# Altium schematic symbol library Ingenic.SchLib: 2 symbols
Pins are listed as number, name and electrical type; pins without a type are passive.

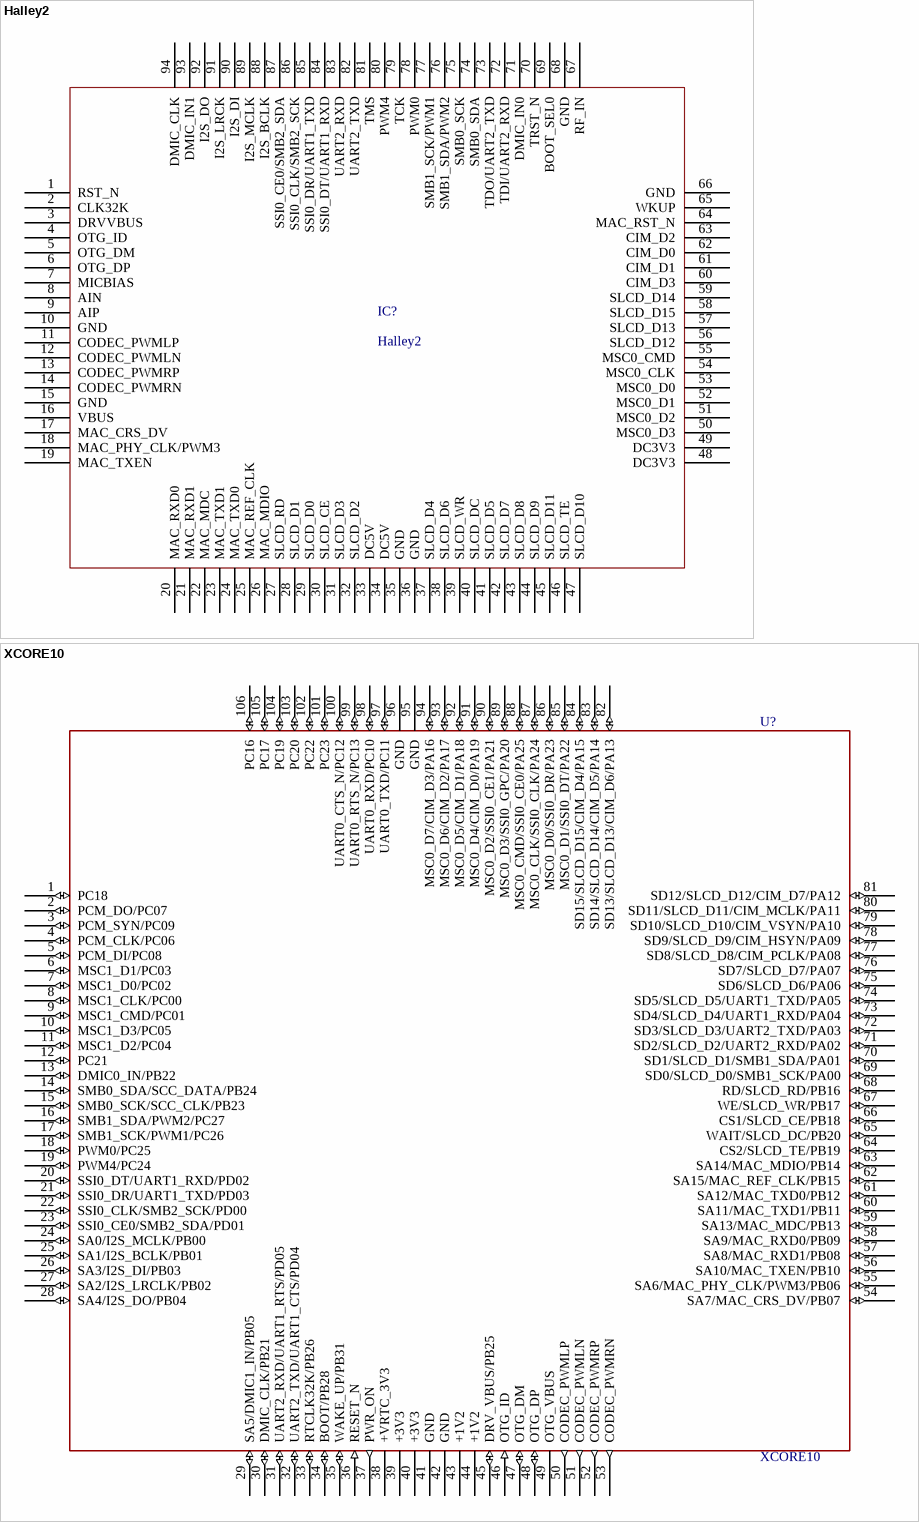
[diagram p0: symbols Halley2 to XCORE10]

## Halley2
designator IC?
footprint Halley2
pins: 1 RST_N, 2 CLK32K, 3 DRVVBUS, 4 OTG_ID, 5 OTG_DM, 6 OTG_DP, 7 MICBIAS, 8 AIN, 9 AIP, 10 GND, 11 CODEC_PWMLP, 12 CODEC_PWMLN, 13 CODEC_PWMRP, 14 CODEC_PWMRN, 15 GND, 16 VBUS, 17 MAC_CRS_DV, 18 MAC_PHY_CLK/PWM3, 19 MAC_TXEN, 20 MAC_RXD0, 21 MAC_RXD1, 22 MAC_MDC, 23 MAC_TXD1, 24 MAC_TXD0, 25 MAC_REF_CLK, 26 MAC_MDIO, 27 SLCD_RD, 28 SLCD_D1, 29 SLCD_D0, 30 SLCD_CE, 31 SLCD_D3, 32 SLCD_D2, 33 DC5V, 34 DC5V, 35 GND, 36 GND, 37 SLCD_D4, 38 SLCD_D6, 39 SLCD_WR, 40 SLCD_DC, 41 SLCD_D5, 42 SLCD_D7, 43 SLCD_D8, 44 SLCD_D9, 45 SLCD_D11, 46 SLCD_TE, 47 SLCD_D10, 48 DC3V3, 49 DC3V3, 50 MSC0_D3, 51 MSC0_D2, 52 MSC0_D1, 53 MSC0_D0, 54 MSC0_CLK, 55 MSC0_CMD, 56 SLCD_D12, 57 SLCD_D13, 58 SLCD_D15, 59 SLCD_D14, 60 CIM_D3, 61 CIM_D1, 62 CIM_D0, 63 CIM_D2, 64 MAC_RST_N, 65 WKUP, 66 GND, 67 RF_IN, 68 GND, 69 BOOT_SEL0, 70 TRST_N, 71 DMIC_IN0, 72 TDI/UART2_RXD, 73 TDO/UART2_TXD, 74 SMB0_SDA, 75 SMB0_SCK, 76 SMB1_SDA/PWM2, 77 SMB1_SCK/PWM1, 78 PWM0, 79 TCK, 80 PWM4, 81 TMS, 82 UART2_TXD, 83 UART2_RXD, 84 SSI0_DT/UART1_RXD, 85 SSI0_DR/UART1_TXD, 86 SSI0_CLK/SMB2_SCK, 87 SSI0_CE0/SMB2_SDA, 88 I2S_BCLK, 89 I2S_MCLK, 90 I2S_DI, 91 I2S_LRCK, 92 I2S_DO, 93 DMIC_IN1, 94 DMIC_CLK

## XCORE10
designator U?
footprint CORE-32*26-1.0
pins: 1 PC18 (io), 2 PCM_DO/PC07 (io), 3 PCM_SYN/PC09 (io), 4 PCM_CLK/PC06 (io), 5 PCM_DI/PC08 (io), 6 MSC1_D1/PC03 (io), 7 MSC1_D0/PC02 (io), 8 MSC1_CLK/PC00 (io), 9 MSC1_CMD/PC01 (io), 10 MSC1_D3/PC05 (io), 11 MSC1_D2/PC04 (io), 12 PC21 (io), 13 DMIC0_IN/PB22 (io), 14 SMB0_SDA/SCC_DATA/PB24 (io), 15 SMB0_SCK/SCC_CLK/PB23 (io), 16 SMB1_SDA/PWM2/PC27 (io), 17 SMB1_SCK/PWM1/PC26 (io), 18 PWM0/PC25 (io), 19 PWM4/PC24 (io), 20 SSI0_DT/UART1_RXD/PD02 (io), 21 SSI0_DR/UART1_TXD/PD03 (io), 22 SSI0_CLK/SMB2_SCK/PD00 (io), 23 SSI0_CE0/SMB2_SDA/PD01 (io), 24 SA0/I2S_MCLK/PB00 (io), 25 SA1/I2S_BCLK/PB01 (io), 26 SA3/I2S_DI/PB03 (io), 27 SA2/I2S_LRCLK/PB02 (io), 28 SA4/I2S_DO/PB04 (io), 29 SA5/DMIC1_IN/PB05 (io), 30 DMIC_CLK/PB21 (io), 31 UART2_RXD/UART1_RTS/PD05 (io), 32 UART2_TXD/UART1_CTS/PD04 (io), 33 RTCLK32K/PB26 (io), 34 BOOT/PB28 (io), 35 WAKE_UP/PB31 (io), 36 RESET_N (in), 37 PWR_ON (out), 38 +VRTC_3V3 (power), 39 +3V3 (power), 40 +3V3 (power), 41 GND (power), 42 GND (power), 43 +1V2 (power), 44 +1V2 (power), 45 DRV_VBUS/PB25 (io), 46 OTG_ID (in), 47 OTG_DM (io), 48 OTG_DP (io), 49 OTG_VBUS (power), 50 CODEC_PWMLP (out), 51 CODEC_PWMLN (out), 52 CODEC_PWMRP (out), 53 CODEC_PWMRN (out), 54 SA7/MAC_CRS_DV/PB07 (io), 55 SA6/MAC_PHY_CLK/PWM3/PB06 (io), 56 SA10/MAC_TXEN/PB10 (io), 57 SA8/MAC_RXD1/PB08 (io), 58 SA9/MAC_RXD0/PB09 (io), 59 SA13/MAC_MDC/PB13 (io), 60 SA11/MAC_TXD1/PB11 (io), 61 SA12/MAC_TXD0/PB12 (io), 62 SA15/MAC_REF_CLK/PB15 (io), 63 SA14/MAC_MDIO/PB14 (io), 64 CS2/SLCD_TE/PB19 (io), 65 WAIT/SLCD_DC/PB20 (io), 66 CS1/SLCD_CE/PB18 (io), 67 WE/SLCD_WR/PB17 (io), 68 RD/SLCD_RD/PB16 (io), 69 SD0/SLCD_D0/SMB1_SCK/PA00 (io), 70 SD1/SLCD_D1/SMB1_SDA/PA01 (io), 71 SD2/SLCD_D2/UART2_RXD/PA02 (io), 72 SD3/SLCD_D3/UART2_TXD/PA03 (io), 73 SD4/SLCD_D4/UART1_RXD/PA04 (io), 74 SD5/SLCD_D5/UART1_TXD/PA05 (io), 75 SD6/SLCD_D6/PA06 (io), 76 SD7/SLCD_D7/PA07 (io), 77 SD8/SLCD_D8/CIM_PCLK/PA08 (io), 78 SD9/SLCD_D9/CIM_HSYN/PA09 (io), 79 SD10/SLCD_D10/CIM_VSYN/PA10 (io), 80 SD11/SLCD_D11/CIM_MCLK/PA11 (io), 81 SD12/SLCD_D12/CIM_D7/PA12 (io), 82 SD13/SLCD_D13/CIM_D6/PA13 (io), 83 SD14/SLCD_D14/CIM_D5/PA14 (io), 84 SD15/SLCD_D15/CIM_D4/PA15 (io), 85 MSC0_D1/SSI0_DT/PA22 (io), 86 MSC0_D0/SSI0_DR/PA23 (io), 87 MSC0_CLK/SSI0_CLK/PA24 (io), 88 MSC0_CMD/SSI0_CE0/PA25 (io), 89 MSC0_D3/SSI0_GPC/PA20 (io), 90 MSC0_D2/SSI0_CE1/PA21 (io), 91 MSC0_D4/CIM_D0/PA19 (io), 92 MSC0_D5/CIM_D1/PA18 (io), 93 MSC0_D6/CIM_D2/PA17 (io), 94 MSC0_D7/CIM_D3/PA16 (io), 95 GND (power), 96 GND (power), 97 UART0_TXD/PC11 (io), 98 UART0_RXD/PC10 (io), 99 UART0_RTS_N/PC13 (io), 100 UART0_CTS_N/PC12 (io), 101 PC23 (io), 102 PC22 (io), 103 PC20 (io), 104 PC19 (io), 105 PC17 (io), 106 PC16 (io)